# EAGLE library part AD8418 (library marionette)
Current Sense Amplifier Mfg.: Analog, Pkg.: SOIC-8, MPN: AD8418WBRZ, DPN: AD8418WBRZ-ND
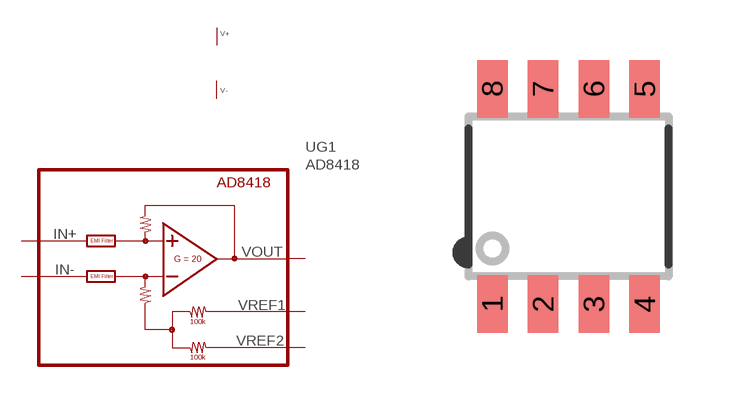
[diagram p22: symbol with the pads of SOIC-8_BETTER_TOE; footprint SOIC-8_BETTER_TOE]

Designator prefix -; gates G1=AD8418 G2=PIN_V+ G3=PIN_V-

## AD8418  [SOIC-8_BETTER_TOE]
1  G1:IN-  in
2  G3:V-  pwr
3  G1:VREF2  in
5  G1:VOUT  out
6  G2:V+  pwr
7  G1:VREF1  in
8  G1:IN+  in

## Footprint SOIC-8_BETTER_TOE (pad centres in mm)
SOIC-8 package that has at least 0.3mm toe clearance and .05mm heel clearance for the package. Based upon JEDEC standard MS-012-AA drawing found in AD8418 datasheet.
smd 0.762 x 1.443: 1 -1.905,-2.69; 2 -0.635,-2.69; 3 0.635,-2.69; 4 1.905,-2.69; 5 1.905,2.69; 6 0.635,2.69; 7 -0.635,2.69; 8 -1.905,2.69